# Altium schematic symbol library AIRZAI_LID_BD_REVA.SCHLIB: 26 symbols
Pins are listed as number, name and electrical type; pins without a type are passive.

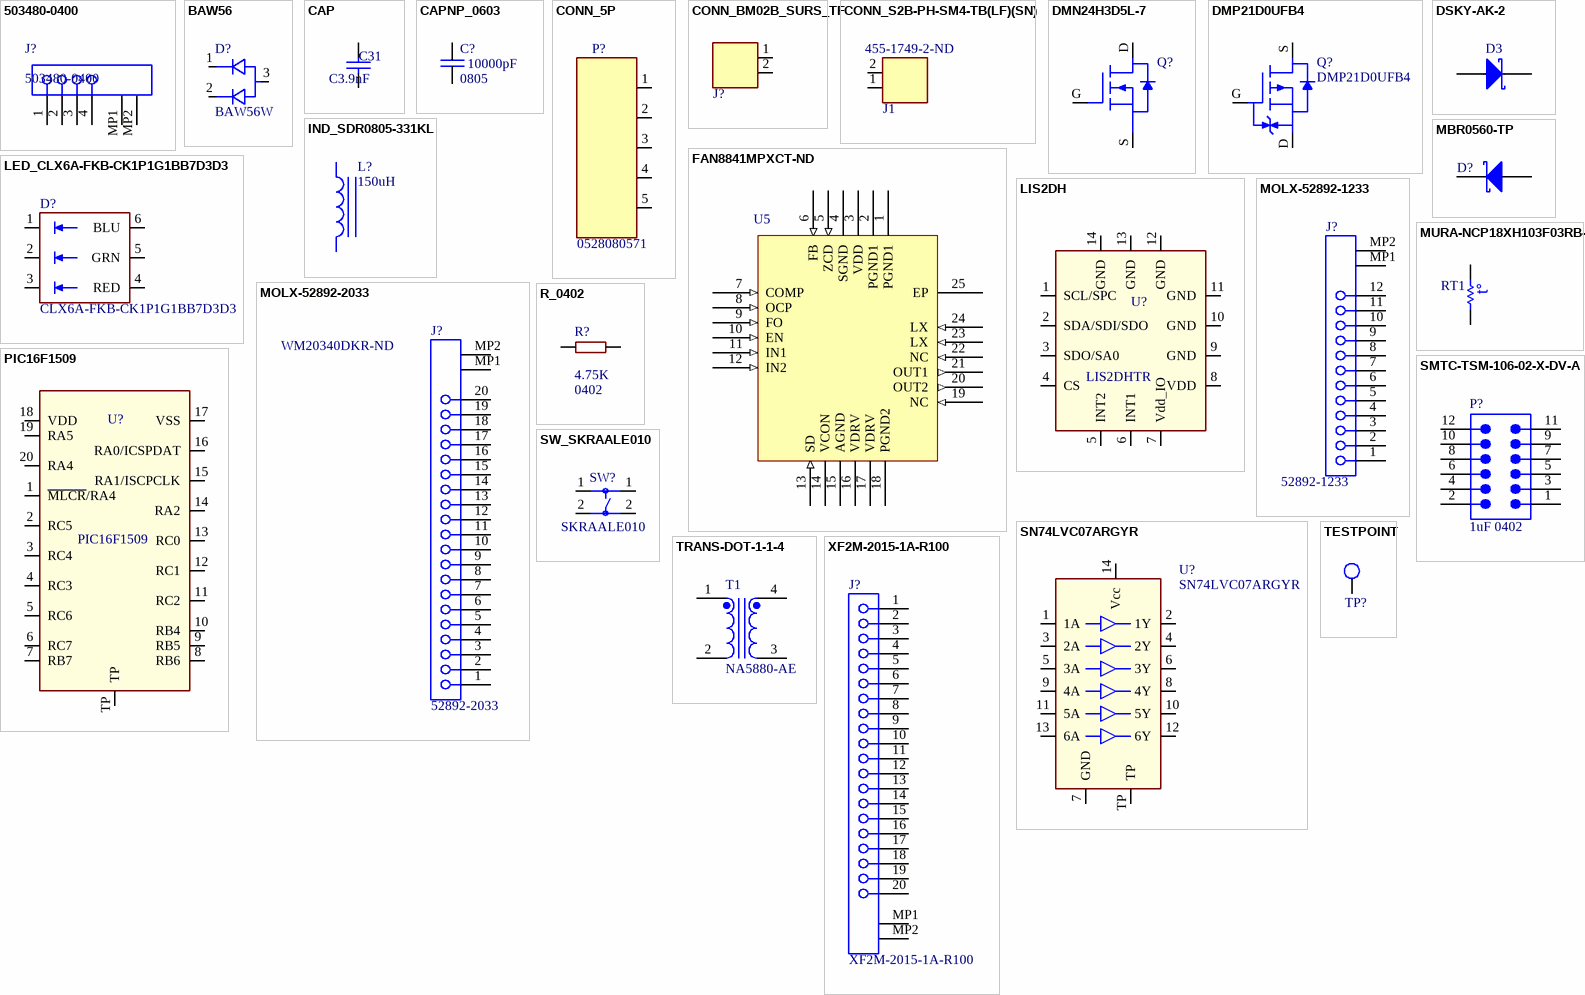
[diagram p0: symbols 503480-0400 to XF2M-2015-1A-R100]

## 503480-0400
designator J?
0.5 mm Pitch Easy-On(TM) BackFlip(TM) Type FPC Connector, 1.0 mm Mated Height, Right Angle, SMT, Dual Contact, 4 Circuits, -40 to 85 degC, ELV and RoHS Compliant, Tape and Reel; Manufacturer: Molex; Durability (mating cycles max): 10; Mated Height: 1.00mm; Material - Metal: Phosphor Bronze; Polarized to PCB: Yes; Voltage (Max): 50V AC (RMS)/DC; PCB Locator: No; Entry Angle: 90degrees Angle; Material - Plating Termination: Gold, Tin; Current (Max per Contact): 0.5A; Material - Plating Mating: Gold; Pitch - Mating Interface: 0.50mm; Circuits (Loaded): 4; Contact Position: Dual; PartNumber: 503480-0400; ComponentLink1Description: Manufacturer URL; ComponentLink2Description: Datasheet; ComponentLink3URL: http://www.molex.com/pdm_docs/sd/5034800400_sd.pdf; ComponentLink3Description: Package Specification; ComponentLink1URL: http://www.molex.com/molex/index.jsp; Packing: Tape and Reel; Number of Rows: 1; ComponentLink2URL: http://www.molex.com/webdocs/datasheets/pdf/en-us/5034800400_FFC_FPC_CONNECTORS.pdf; PackageReference: 503480-0400; PackageVersion: Rev. F, 09/2012; RoHS: TRUE; PCB Retention: Yes; Orientation: Right Angle; Stackable: No; Mounting Technology: Surface Mount; PackageDescription: 4-Lead FPC Connector, Pitch 0.5 mm
footprint MOLX-503480-0400
pins: 1, 2, 3, 4, MP1, MP2

## BAW56
designator D?, comment BAW56W
Manufacturer Part Number: BAW56WT1G; Manufacturer: Diodes Inc; Value: BAW56WT1G; Note: *; Footprint: SOT323_P123
footprint SOT323_P123 (123_PINS)
pins: 1, 2, 3

## CAP
designator C31, comment C3.9nF
CAP 3.9nF 50V ±10% 0402 (1005 Metric) Thickness 0.6mm SMD; Manufacturer: TDK; Manufacturer Part Number: C2012C0G1H392J060AA; Case-Metric: 1005; Case-EIA: 0402; Tolerance: Â±10%; Max Thickness: 0.6 mm; Rated Voltage: 50 V; Technology: SMT; Value: 3.9nF; Supplier 1: Digi-Key; Supplier Part Number 1: 445-7510-1-ND
footprint CAPC0402(1005)60_N (Chip Capacitor, Body 1.0x0.5mm, Height 0.6mm, IPC Medium Density)
footprint CAPC0402(1005)60_M (Chip Capacitor, Body 1.0x0.5mm, Height 0.6mm, IPC Low Density)
footprint CAPC0402(1005)60_L (Chip Capacitor, Body 1.0x0.5mm, Height 0.6mm, IPC High Density)
pins: 1, 2
1 alternate drawing of the same symbol

## CAPNP_0603
designator C?, comment 10000pF  Footprint: 0805
CAP_0603; Manufacturer: KEMET; Manufacturer Part Number: C0805C103KCRACTU; Note: 500V ±10%  X7R; Value: 10000pF
footprint Model Name (Footprint not found)
footprint SM0805_BTD.1SM_1.45H (CAP CER 16V 10% X7R 0805)
pins: 1, 2

## CONN_5P
designator P?, comment 0528080571
Manufacturer: MOLEX; Manufacturer Part Number: 0528080571; Footprint: CON_052080571_5PIN_SPCL; Value: 0528080571
footprint CON_052080571_5PIN_SPCL (MOLEX 5PIN VERT SPCL PADS)
pins: 1, 2, 3, 4, 5 4

## CONN_BM02B_SURS_TF
designator J?
Manufacturer Part Number: 781710002; Manufacturer: MOLEX; Footprint: CON_78171_0002
footprint CON_78171_0002 (1.55 MATED HT)
pins: 1, 2

## CONN_S2B-PH-SM4-TB(LF)(SN)
designator J1, comment Supplier Part Number 1: 455-1749-2-ND  (hidden comment: S2B-PH-SM4-TB(LF)(SN))
Manufacturer: JST; Description: CONN HEADER SMD R/A 2POS 2MM; Number of Positions: 2; Connector Type: Male Pin; Current Rating: 2A; Voltage Rating (AC): 100V; Contact Resistance: 20mR; Insulation Resistance: 1GR; Gender: Male; Pitch: 2mm; Value: S2B-PH-SM4-TB(LF)(SN); ComponentLink1URL: https://datasheet.ciiva.com/11747/0900766b80df0d9d-11747104.pdf?src-supplier=RSComponents; ComponentLink1Description: https://datasheet.ciiva.com/11747/0900766b80df0d9d-11747104.pdf?src-supplier=RSComponents; ComponentLink2URL: https://datasheet.ciiva.com/712/eph-712514.pdf?src-supplier=Digi-Key; ComponentLink2Description: https://datasheet.ciiva.com/712/eph-712514.pdf?src-supplier=Digi-Key; ComponentLink3URL: https://datasheet.ciiva.com/712/eph-712515.pdf?src-supplier=Digi-Key; ComponentLink3Description: https://datasheet.ciiva.com/712/eph-712515.pdf?src-supplier=Digi-Key; ComponentLink4URL: https://datasheet.ciiva.com/712/eph-712516.pdf?src-supplier=Digi-Key; ComponentLink4Description: https://datasheet.ciiva.com/712/eph-712516.pdf?src-supplier=Digi-Key; ComponentLink5URL: https://datasheet.ciiva.com/26894/getdatasheetpartid-406256-26894907.pdf?src-supplier=Verical; ComponentLink5Description: https://datasheet.ciiva.com/26894/getdatasheetpartid-406256-26894907.pdf?src-supplier=Verical; Supplier 1: Digi-Key; Manufacturer Part Number: S2B-PH-SM4-TB(LF)(SN); Stock 1: 145000; Pricing 1: 1000 = 0.27353, 2000 = 0.26524, 3000 = 0.24866, 5000 = 0.24037, 10000 = 0.22380, 25000 = 0.21551 (USD); RoHS: Yes; Mount: Surface Mount; Contact Plating: Tin; Color: Natural; Contact Material: Copper Alloy; Housing Color: Beige; Housing Material: Polyamide; Min Operating Temperature: -25°C; Max Operating Temperature: 85°C; Number of Rows: 1; Packaging: Tape and Reel; Voltage Rating: 100V; Number of Poles: 2; Max Current Rating: 2A; Termination: Solder; Fastening Type: Detent; Number of Contacts: 2; Working Voltage: 100V; Max Voltage Rating (AC): 100V; Max Voltage Rating (DC): 100V; Orientation: Right Angle; Length: 7.9mm; Height: 9.4mm; Lead Pitch: 2mm; Width: 5mm; Contact Mating Length: 0.13inch; Depth: 7.6mm; Lead Free: Lead Free; REACH SVHC: No SVHC; Flammability Rating: UL94 V-0
footprint JST- S2B-PH-SM4-TB(LF)(SN)-2_V (SMD, 2-Leads, Body 7.9x7.6mm, Pitch 2mm)
pins: 1, 2

## DMN24H3D5L-7
designator Q?  (value not drawn)
Manufacturer: DIODES INC.; Manufacturer Part Number: DMN24H3D5L-7; Footprint: SOT23_GDS; Value: DMN24H3D5L-7; Note: *
footprint SOT23_GDS
pins: D, G, S

## DMP21D0UFB4
designator Q?
Manufacturer: DIODES INC.; Manufacturer Part Number: DMP21D0UFB4; Footprint: DFN1006H4-3; Value: DMP21D0UFB4; Note: *
footprint DFN1006H4-3
pins: D, G, S

## DSKY-AK-2
designator D3, comment STPS2H100A  (value not drawn)
Power Schottky Rectifier, 2 A, 100 V, 2-Pin SMD (SMA), RoHS, Tape and Reel; Manufacturer: STMicroelectronics; Other Related Documents: STPS2H100ViewAllSpecifications; Voltage - Forward (Vf) (Max) @ If: 790mV@2A; Current - Average Rectified (Io): 2A; Online Catalog: SchottkyDiode; Voltage - DC Reverse (Vr) (Max): 100V; Other Names: 497-3758-6; Speed: FastRecovery=200mA(Io); Current - Reverse Leakage @ Vr: 1µA@100V; Case-EIA: DO-214AC, SMA; Rated Voltage: 100 V; Value: 100V 2A; Series: -; Datasheet Version: 06/2013; Manufacturer URL: http://www.st.com/; Diode Type: Schottky; Standard Package: 1; Package URL: http://www.st.com/st-web-ui/static/active/en/resource/technical/document/datasheet/CD00283518.pdf; Category: DiscreteSemiconductorProducts; Operating Temperature - Junction: 175°C(Max); Package / Case: DO-214AC,SMA; Package Description: 2-Pin Surface Mount Device, Body 4.275 x 2.575 mm; Mounting Type: SurfaceMount; Family: Diodes,Rectifiers-Single; Reverse Recovery Time (trr): -; Package Reference: SMA; Mounting Technology: SurfaceMount; Packaging: Digi-Reel®; Capacitance @ Vr, F: -; Supplier Device Package: SMA(DO-214AC); Datasheet URL: http://www.st.com/content/ccc/resource/technical/document/datasheet/0a/8b/df/ef/15/72/4f/38/CD00001548.pdf/files/CD00001548.pdf/jcr:content/translations/en.CD00001548.pdf; Manufacturer Part Number: STPS2H100A; Supplier 1: Digi-Key; Supplier Part Number 1: 497-3758-6-ND; Technology: SMT
footprint STM-SMA-2_V (Diode, 2-Leads, Body 4.6x2.9mm)
pins: 1 A, 2 K

## FAN8841MPXCT-ND
designator U5  (value not drawn)
IC PIEZO ACTUATOR DVR 24MLP; Manufacturer: ON Semiconductor; Case-EIA: 24-WFQFN; Supplier 1: Digi-Key; Supplier Part Number 1: FAN8841MPXCT-ND; Manufacturer Part Number: FAN8841MPX; Technology: SMT; Value: FAN8841MPX
footprint WFQFN-24-FAN8841MPX
pins: 1 PGND1 (power) "Power Ground 1. It is connected to the source of the step-up switch.", 2 PGND1 (power) "Power Ground 1. It is connected to the source of the step-up switch.", 3 VDD (power) "Power supply of step-up DC-DC converter", 4 SGND (power) "Signal Ground. The signal ground for step-up DC-DC converter circuitry", 5 ZCD (in) "The input of the Zero Current Detection", 6 FB (in) "Step-up DC-DC converter output voltage feedback input", 7 COMP (in) "Output of the transconductance error amplifier.", 8 OCP (in) "Sets Step-up DC-DC converter current limit", 9 FO (in) "Fault Output", 10 EN (in) "Enable pin to turn on and off the overall system. (Active Low Shutdown Mode).", 11 IN1 (in) "Logic input for Half-Bridge 1", 12 IN2 (in) "Logic input for Half-Bridge 2", 13 SD (in) "Shutdown input for H-Bridge 1 and 2. (Active Low Shutdown Mode).", 14 VCON (power) "Control input for output voltage of step-up DC-DC converter", 15 AGND (power) "Analog Ground. The signal ground for H-bridge driver circuitry", 16 VDRV (power) "Power supply of each H-bridge driver", 17 VDRV (power) "Power supply of each H-bridge driver", 18 PGND2 (power) "Power Ground 2. The power ground for Half-bridge driver", 19 NC (in) "Not Connected", 20 OUT2 (out) "Output for Half-bridge 2", 21 OUT1 (out) "Output for Half-bridge 1", 22 NC (in) "Not Connected", 23 LX (in) "Switch Node. This pin is connected to the inductor", 24 LX (in) "Switch Node. This pin is connected to the inductor", 25 EP

## IND_SDR0805-331KL
designator L?, comment 150uH
Manufacturer: BOURNS; Manufacturer Part Number: SDR0503-151KL; Value: 150uH; Footprint: IND_SDR0503_SERIES
footprint IND_SDR0503_SERIES (5.0DX3.3H)
pins: 1, 2

## LED_CLX6A-FKB-CK1P1G1BB7D3D3
designator D?, comment CLX6A-FKB-CK1P1G1BB7D3D3
Manufacturer: CREE; Manufacturer Part Number: CLX6A-FKB-CK1P1G1BB7D3D3; Footprint: LED_CLX6A-FKB; Note: *; Value: CLX6A-FKB-CK1P1G1BB7D3D3
footprint LED_CLX6A-FKB (CREE LED 3 IN 1)
pins: 1, 2, 3, 4 RED, 5 GRN, 6 BLU

## LIS2DH
designator U?, comment LIS2DHTR
Manufacturer: ST; Footprint: LGA14_2X2X1; Manufacturer Part Number: LIS2DHTR; Value: LIS2DHTR
footprint LGA14_2X2X1
pins: 1 SCL/SPC, 2 SDA/SDI/SDO, 3 SDO/SA0, 4 CS, 5 INT2, 6 INT1, 7 Vdd_IO, 8 VDD, 9 GND, 10 GND, 11 GND, 12 GND, 13 GND, 14 GND

## MBR0560-TP
designator D?, comment MBR0540  (value not drawn)
Schottky Rectifier, 40 V, 0.5 A, 2-Pin SOD-123, RoHS, Tape and Reel; Manufacturer: Micro Commercial Co; Manufacturer Part Number: MBR0560-TP; Voltage - DC Reverse (Vr) (Max): 60V; Online Catalog: SchottkyDiode; Current - Average Rectified (Io): 500mA; Rated Voltage: 60 V; Series: -; Category: DiscreteSemiconductorProducts; Datasheet URL: https://datasheet.ciiva.com/8303/mbr0540-8303808.pdf; Operating Temperature - Junction: -65degC~125degC; Family: Diodes,Rectifiers-Single; Mounting Type: SurfaceMount; Standard Package: 1; Diode Type: Schottky; Supplier Device Package: SOD-123; Reverse Recovery Time (trr): -; Package / Case: SOD-123; Datasheet Version: Rev. 1.1.0, 10/2014; Capacitance @ Vr, F: -; Packaging: CutTape(CT); Supplier 1: Digi-Key; Supplier Part Number 1: MBR0560TPMSTR-ND; Case-EIA: SOD-123; Case-Metric: SOD-123; Max Thickness: 0.6mm; Technology: SMT
footprint SOD-123-MBR0560-TP (SODFL, 2-Leads, Body 1.8x2.85mm, IPC Medium Density)
pins: 1 A, 2 K

## MOLX-52892-1233
designator J?, comment 52892-1233
0.5 mm Pitch Easy-On(TM) Type FPC Connector, 2.0 mm Mated Height, Right Angle, ZIF, SMT, Bottom Contact, 12 Circuits, -40 to 85 degC, ELV and RoHS Compliant, Tape and Reel; Manufacturer: MOLEX; Manufacturer Part Number: 0528921233; Circuits (Loaded): 12; Material - Plating Mating: Silver, Tin-Bismuth; Voltage (Max): 50V; Durability (mating cycles max): 20; Polarized to PCB: No; Mated Height: 2.00mm; Current (Max per Contact): 0.5A; PCB Retention: Yes; Pitch - Mating Interface: 0.50mm; Material - Metal: Phosphor Bronze; Entry Angle: 90degrees Angle; ComponentLink2URL: http://www.molex.com/webdocs/datasheets/pdf/en-us/0528921233_FFC_FPC_CONNECTORS.pdf; Number of Rows: 1; Mounting Technology: Surface Mount; ComponentLink1URL: http://www.molex.com/molex/index.jsp; ComponentLink3URL: http://www.molex.com/pdm_docs/sd/528921233_sd.pdf; ComponentLink1Description: Manufacturer URL; ComponentLink2Description: Datasheet; Contact Position: Bottom; PartNumber: 52892-1233; PackageVersion: Rev. A, 05/2013; Orientation: Right Angle; Packing: Tape and Reel; PackageReference: 52892-1233; RoHS: TRUE; Stackable: No; Material - Plating Termination: Silver, Tin-Bismuth; PCB Locator: No; Pitch - Termination Interface: 0.50mm; ComponentLink3Description: Package Specification; PackageDescription: 12-Lead FPC Connector, Pitch 0.5 mm; Max Thickness: 0.6 mm; Supplier 1: Digi-Key; Supplier Part Number 1: WM11084TR-ND; Technology: SMT
footprint MOLX-52892-1233 (FPC Connector, 12-Leads, Right Angle, Pitch 0.5 mm, Mated Height 2.0 mm, SMT)
pins: 1, 2, 3, 4, 5, 6, 7, 8, 9, 10, 11, 12, MP1, MP2

## MOLX-52892-2033
designator J?, comment 52892-2033  Supplier Part Number 1: WM20340DKR-ND
0.5 mm Pitch Easy-On(TM) Type FPC Connector, 2.0 mm Mated Height, Right Angle, ZIF, SMT, Bottom Contact, 20 Circuits, -40 to 85 degC, ELV and RoHS Compliant, Tape and Reel; Manufacturer: MOLEX; Manufacturer Part Number: 0528922096; Material - Metal: Phosphor Bronze; Material - Plating Termination: Silver, Tin-Bismuth; Current (Max per Contact): 0.5A; Pitch - Mating Interface: 0.50mm; PCB Retention: Yes; Mated Height: 2.00mm; Entry Angle: 90degrees Angle; PCB Locator: No; Durability (mating cycles max): 20; Voltage (Max): 50V; ComponentLink1URL: http://www.molex.com/molex/index.jsp; Number of Rows: 1; PartNumber: 52892-2033; Contact Position: Bottom; PackageVersion: Rev. A, 05/2013; ComponentLink2Description: Datasheet; Mounting Technology: Surface Mount; Material - Plating Mating: Silver, Tin-Bismuth; ComponentLink2URL: http://www.molex.com/webdocs/datasheets/pdf/en-us/0528922033_FFC_FPC_CONNECTORS.pdf; PackageDescription: 20-Lead FPC Connector, Pitch 0.5 mm; Packing: Tape and Reel; ComponentLink3Description: Package Specification; ComponentLink3URL: http://www.molex.com/pdm_docs/sd/528922033_sd.pdf; Pitch - Termination Interface: 0.50mm; Orientation: Right Angle; Circuits (Loaded): 20; Polarized to PCB: No; Stackable: No; PackageReference: 52892-2033; ComponentLink1Description: Manufacturer URL; RoHS: TRUE; Supplier 1: Digi-Key; Max Thickness: 0.6 mm; Technology: SMT
footprint MOLX-52892-2033 (FPC Connector, 20-Leads, Right Angle, Pitch 0.5 mm, Mated Height 2.0 mm, SMT)
pins: 1, 2, 3, 4, 5, 6, 7, 8, 9, 10, 11, 12, 13, 14, 15, 16, 17, 18, 19, 20, MP1, MP2

## MURA-NCP18XH103F03RB-2
designator RT1, comment NCP18XH103F03RB  (value not drawn)
NTC Thermistor, 10 KOhm, +/- 1%, 0.1 W, -40 to 125 degC, 0603 (1608 Metric), RoHS, Tape and Reel; Manufacturer: Murata; B-constant: 3434K; Resistance: 10kO; Rated Current: 310A; Case-EIA: 0603; Case-Metric: 1608; Value: 3455K; Datasheet URL: http://www.jameco.com/Jameco/Products/ProdDS/1870999.pdf; Datasheet Version: Apr-05; Temperature Range: -40to+125degC; Tolerance (%): ±1%; Manufacturer URL: http://www.murata.com/; Type: NTC; Manufacturer Part Number: NCP18XH103F03RB; Max Thickness: 0.6 mm; Supplier 1: Digi-Key; Supplier Part Number 1: 490-4800-2-ND; Technology: SMT; Tolerance: 1 %
footprint MURA-NCP18XH103F03RB-2_V (Chip, 2-Leads, Body 1.6x0.8mm)
pins: 1, 2
text: t°

## PIC16F1509
designator U?
Manufacturer Part Number: PIC16F1509-I/ML; Manufacturer: MICROCHIP TECHNOLOGY; Footprint: UQFN20_4X4_.5SP - MICRO; Value: *; Note: *
footprint UQFN20_4X4_.5SP - MICRO
pins: 1 ~{MLCR}/RA4, 2 RC5, 3 RC4, 4 RC3, 5 RC6, 6 RC7, 7 RB7, 8 RB6, 9 RB5, 10 RB4, 11 RC2, 12 RC1, 13 RC0, 14 RA2, 15 RA1/ISCPCLK, 16 RA0/ICSPDAT, 17 VSS, 18 VDD, 19 RA5, 20 RA4, TP

## R_0402
designator R?  value 4.75K  Footprint: 0402
Manufacturer Part Number: ERJ-2RKF4751X; Manufacturer: Panasonic
footprint SM0402_BTD.1SM_ACT_H4
pins: 1, 2

## SMTC-TSM-106-02-X-DV-A
designator P?, comment 1uF 0402
Manufacturer: Samtec; PartNumber: TSM-106-02-T-DV-A; Manufacturer Part Number: TSM-106-02-T-DV-A-TR; Pitch: 2.54 mm; Mounting Technology: Surface Mount; Temperature Range: -55 to 105 degC; ComponentLink2Description: Datasheet; ComponentLink1URL: http://www.samtec.com; RoHS: True; ComponentLink1Description: Manufacturer URL; ComponentLink2URL: http://www.samtec.com/documents/webfiles/pdf/TSM.PDF; Orientation: Vertical; PackageVersion: U, 10/1997; DatasheetVersion: F-214; PackageReference: TSM-106-02-X-DV-A; ComponentLink3Description: Package Specification; ComponentLink3URL: http://www.samtec.com/documents/webfiles/cpdf/TSM-1XX-XX-XX-DV-S-XXX-XX-MKT1.pdf; Supplier 1: Digi-Key; Supplier Part Number 1: TSM-106-02-T-DV-A-TR-ND; Technology: SMT
footprint SMTC-TSM-106-02-X-DV-A (Double Row Gullwing Asm, 2x6 Pins, Vertical, 2.54mm Pitch, Male)
pins: 1, 2, 3, 4, 5, 6, 7, 8, 9, 10, 11, 12

## SN74LVC07ARGYR
designator U?
Manufacturer: TI; Footprint: PVQFN14; Manufacturer Part Number: SN74LVC07ARGYR; Value: SN74LVC07ARGYR; Note: *
footprint PVQFN14 (PVQFN 14PIN 3.65X3.65)
pins: 1 1A, 2 1Y, 3 2A, 4 2Y, 5 3A, 6 3Y, 7 GND, 8 4Y, 9 4A, 10 5Y, 11 5A, 12 6Y, 13 6A, 14 Vcc, TP

## SW_SKRAALE010
designator SW?, comment SKRAALE010
Manufacturer: ALPS; Manufacturer Part Number: SKRAAKE010; Footprint: SW_ALPS_SKRAALE010; Value: SKRAALE010
footprint SW_ALPS_SKRAALE010 (6.2MM SQ 2.9RD ACT)
pins: 1, 1, 2, 2

## TESTPOINT
designator TP?  (value not drawn)
footprint TP_0.9MM (0.9MM DIA TESTPOINT)
pins: 1

## TRANS-DOT-1-1-4
designator T1, comment NA5880-AE
Power Inductor and Transformer, 9.6 / 38.42 uH, +/- 20%, 3.4 / 1.7 A, -40 to 85 degC, 4-Pin SMD, RoHS, Tape and Reel; Manufacturer: CoilCraft; Maximum DC Resistance: 19mOhms; Maximum DC Current: 1.3A; Type: InductorsandTransformers; Unit Weight: 0.112000oz; Core Material: AmorphousMetal; Inductance - Parallel: 3.3uH; Case-EIA: 3.9mmx3.9mm; Value: 3.3uH; Datasheet Version: 03/2007; Mounting Style: SMD/SMT; Datasheet URL: https://www.coilcraft.com/pdfs/na5880.pdf; Operating Temperature Range: -40Cto+85C; Product: PowerInductors; Packaging: Reel; Width: 13.97mm; Series: CTX4,4P,4A; Termination Style: SMD/SMT; Length: 13.97mm; Height: 6.35mm; Tradename: OCTA-PAC; Product Category: CoupledInductors; Brand: CoilCraft; Mounting Technology: SurfaceMount; RoHS: True; Manufacturer URL: www.coilcraft.com; Package Description: 4-Pin Surface Mount Device, Body 11.43 x 11.43 mm; Tolerance: 20%; Inductance - Series: 3.3uH; Manufacturer Part Number: NA5880-AE; Max Thickness: 1.1mm; Supplier 1: CoilCraft; Supplier Part Number 1: NA5880-AE
footprint Coilcraft_NA5880-AE_MFG
pins: 1, 2, 3, 4

## XF2M-2015-1A-R100
designator J?
ComponentLink1URL: http://www.molex.com/molex/index.jsp; ComponentLink2Description: Datasheet; ComponentLink2URL: http://www.molex.com/webdocs/datasheets/pdf/en-us/0528922033_FFC_FPC_CONNECTORS.pdf; ComponentLink3Description: Package Specification; ComponentLink3URL: http://www.molex.com/pdm_docs/sd/528922033_sd.pdf; ComponentLink1Description: Manufacturer URL
footprint Omron_XF2M-2015-1A_0
pins: 1, 2, 3, 4, 5, 6, 7, 8, 9, 10, 11, 12, 13, 14, 15, 16, 17, 18, 19, 20, MP1, MP2